# Altium schematic symbol library CL21A106KPCLQNC.SchLib: 1 symbol
Pins are listed as number, name and electrical type; pins without a type are passive.

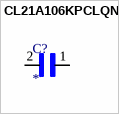
[diagram p0: symbol CL21A106KPCLQNC]

## CL21A106KPCLQNC
designator C?
10 ÂµF Â±10% 10V Ceramic Capacitor X5R 0805 (2012 Metric); MP: CL21A106KPCLQNC; MF: Samsung; Package: Package; Digi-Key_Part_Number: 1276-2402-2-ND; Purchase-URL: https://pricing.snapeda.com/search/part/CL21A106KPCLQNC/?ref=eda; Value: *; Check_prices: https://www.snapeda.com/parts/CL21A106KPCLQNC/Samsung/view-part/?ref=eda; SnapEDA_Link: https://www.snapeda.com/parts/CL21A106KPCLQNC/Samsung/view-part/?ref=snap
footprint CAPC2012X95N
pins: 1, 2